# EAGLE library part FINDER4052* (library rele)
RELAY
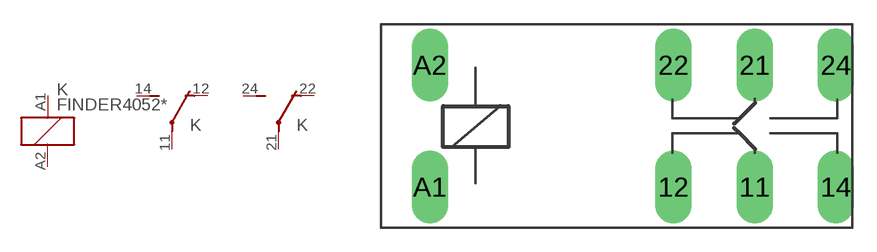
[diagram p14: symbol with the pads of 4052; footprint 4052]

Designator prefix K; gates G$1=K G$2=U G$3=U

## FINDER405206, FINDER405212, FINDER405224, FINDER405248, FINDER4052AC230  [4052]
11  G$2:P  pas
12  G$2:O  pas
14  G$2:S  pas
21  G$3:P  pas
22  G$3:O  pas
24  G$3:S  pas
A1  G$1:1  pas
A2  G$1:2  pas

## Footprint 4052 (pad centres in mm)
RELAY
drill 1.5 long: 11 8.5,-3.75; 12 3.5,-3.75; 14 13.5,-3.75; 21 8.5,3.75; 22 3.5,3.75; 24 13.5,3.75; A1 -11.5,-3.75; A2 -11.5,3.75